# Altium schematic symbol library M12_X_8PIN_FEMALE.SchLib: 1 symbol
Pins are listed as number, name and electrical type; pins without a type are passive.

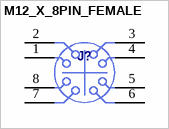
[diagram p0: symbol M12_X_8PIN_FEMALE]

## M12_X_8PIN_FEMALE
designator J?  (value not drawn)
pins: 1, 2, 3, 4, 5, 6, 7, 8